# EAGLE library part SN75240 (library balto)
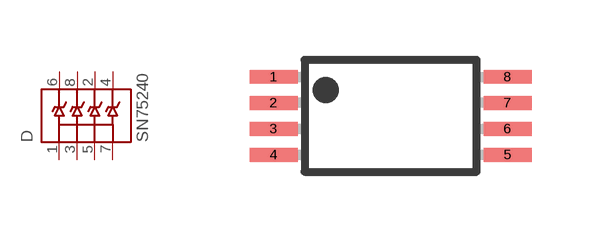
[diagram p11: symbol with the pads of TSSOP8; footprint TSSOP8]

Designator prefix D

## SN75240  [TSSOP8]
1  GND1  pas
2  C  pas
3  GND2  pas
4  D  pas
5  GND3  pas
6  A  pas
7  GND4  pas
8  B  pas

## Footprint TSSOP8 (pad centres in mm)
Plastic Small Outline
smd 1.2 x 0.35: 1 -2.925,0.975; 2 -2.925,0.325; 3 -2.925,-0.325; 4 -2.925,-0.975; 5 2.925,-0.975; 6 2.925,-0.325; 7 2.925,0.325; 8 2.925,0.975